# Altium schematic symbol library dualsseg.SchLib: 1 symbol
Pins are listed as number, name and electrical type; pins without a type are passive.

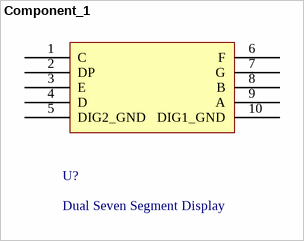
[diagram p0: symbol Component_1]

## Component_1
designator U?, comment Dual Seven Segment Display
footprint DIP10
pins: 1 C, 2 DP, 3 E, 4 D, 5 DIG2_GND, 6 F, 7 G, 8 B, 9 A, 10 DIG1_GND